# Altium integrated library Linear Technology Power Management Switching Regulator LTC1174-LTC3901.IntLib: 2647 symbols (part 41 of 364)
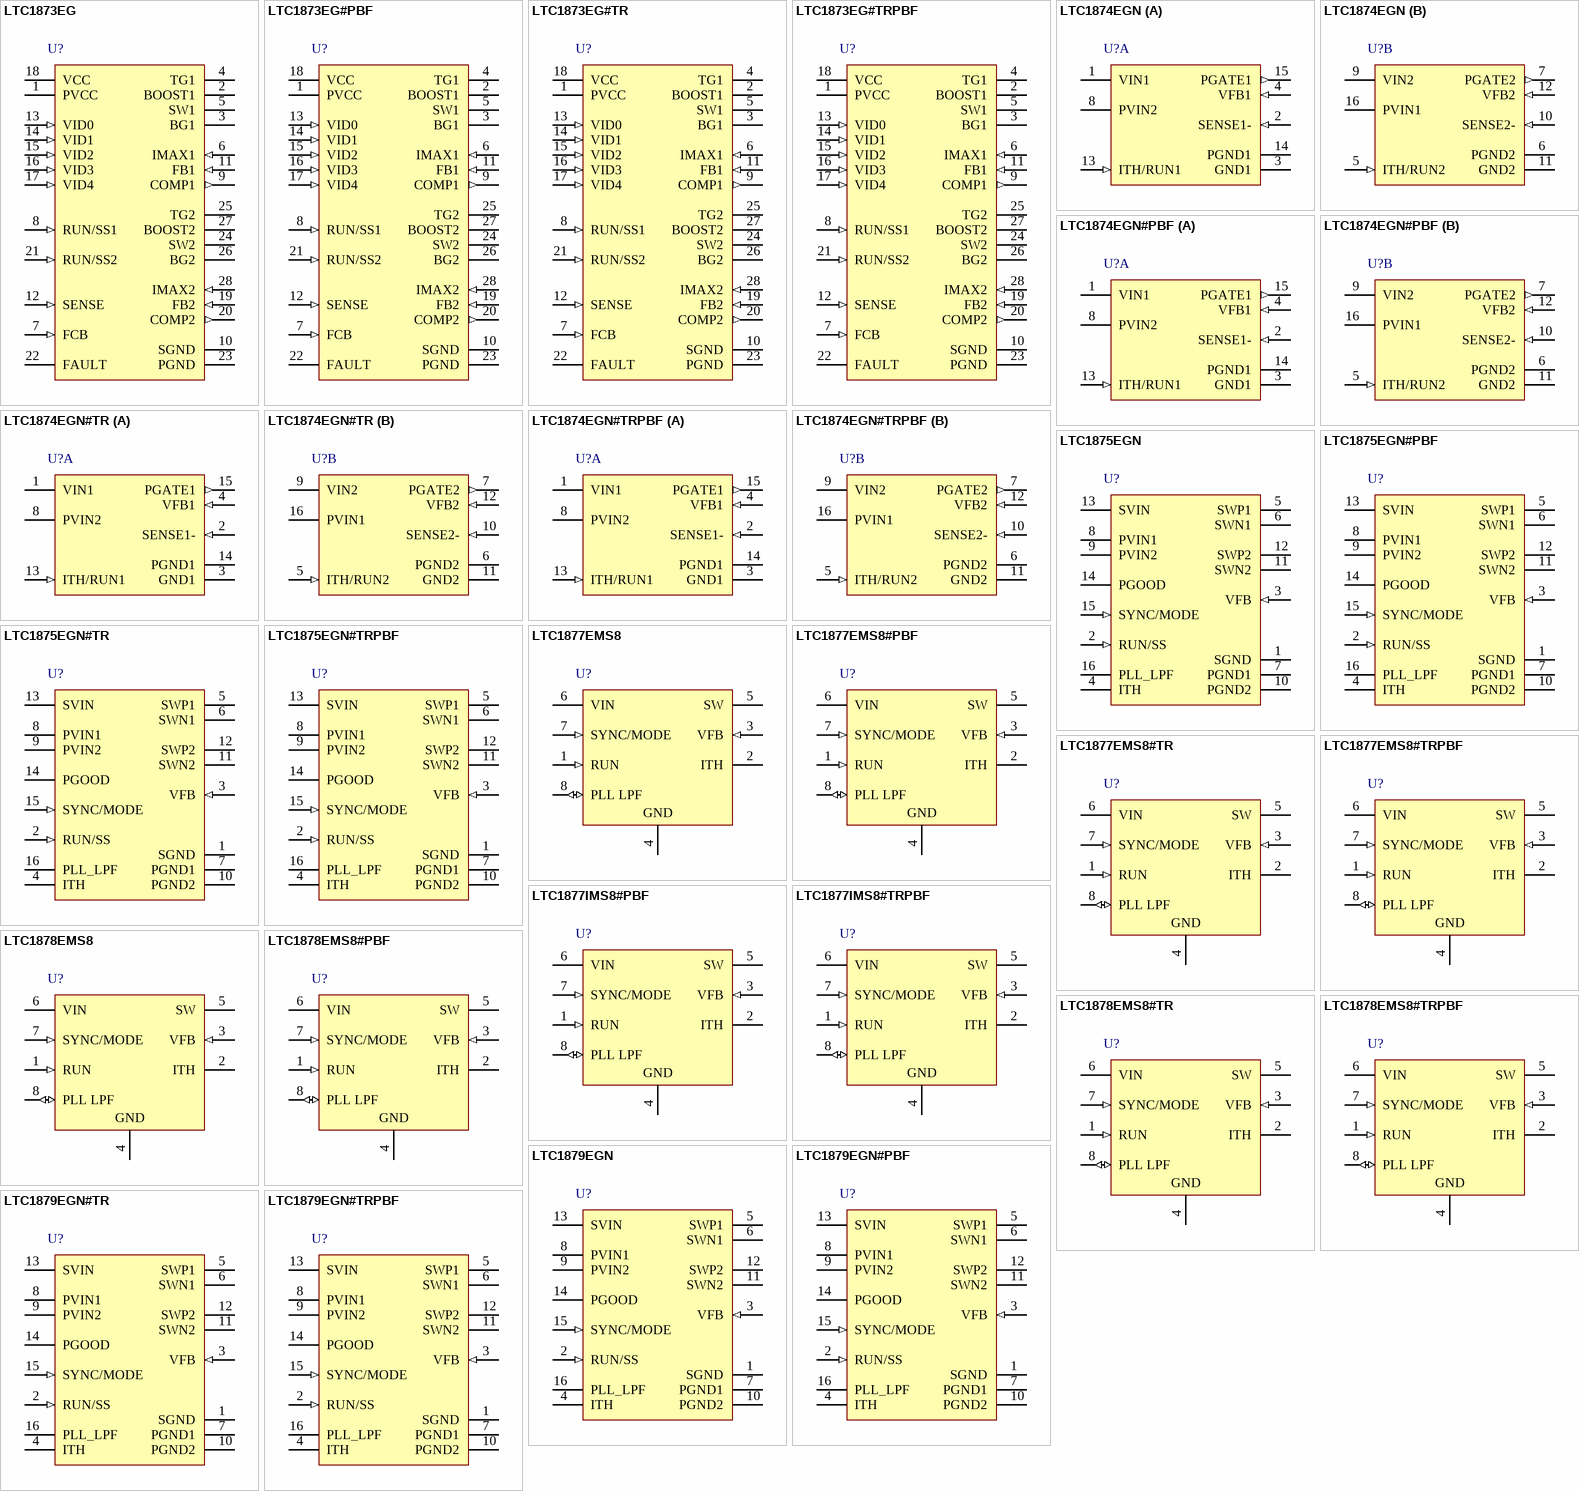
[diagram p236: symbols LTC1873EG to LTC1879EGN#TRPBF]

## LTC1877EMS8
designator U?
High Efficiency Monolithic Synchronous Step-Down Regulator, 8-pin SOP (MS8-8), -40 to 85 degC; Manufacturer: Linear Technology; PartNumber: LTC1877EMS8; Frequency Sync Range: 400kHz - 700kHz; Number of Outputs: 1; DatasheetVersion: Rev. B; PackageVersion: Rev. G, 05/2013; PackageReference: MS8; PackageDescription: 8-Pin Plastic MSOP, Body 3 x 3 mm, Pitch 0.65 mm; Supplier 1: Digi-Key; Supplier Part Number 1: LTC1877EMS8-ND; Supplier 2: Newark; Supplier Part Number 2: 56M4295; RoHS: FALSE; Mounting Technology: Surface Mount; ComponentLink1Description: Manufacturer URL; ComponentLink1URL: http://www.linear.com/; ComponentLink2Description: Datasheet; ComponentLink2URL: http://cds.linear.com/docs/en/datasheet/1877fb.pdf; ComponentLink3Description: Package Specification; ComponentLink3URL: http://cds.linear.com/docs/en/packaging/05081660_G_MS8.pdf
footprint LT-MS8_N (SOP, 8-Leads, Body 3.1x3.1mm, Pitch 0.65mm, IPC Medium Density)
footprint LT-MS8_L (SOP, 8-Leads, Body 3.1x3.1mm, Pitch 0.65mm, IPC High Density)
footprint LT-MS8_M (SOP, 8-Leads, Body 3.1x3.1mm, Pitch 0.65mm, IPC Low Density)
pins: 1 RUN (in), 2 ITH "Error Amplifier Compensation Point. The current comparator threshold increases with this control voltage. Nominal voltage range for this pin is from 0.5V to 1.9V", 3 VFB (in) "Feedback Pin. Receives the feedback voltage from an external resistive divider across the output.", 4 GND (power) "Ground Pin.", 5 SW (power) "Switch Node Connection to Inductor. This pin connects to the drains of the internal main and synchronous power MOSFET switches.", 6 VIN (power) "Main Supply Pin. Must be closely decoupled to GND, Pin 4.", 7 SYNC/MODE (in), 8 PLL LPF (io) "Output of the Phase Detector and Control Input of Oscillator. Connect a series RC lowpass network from this pin to ground if externally synchronized. If unused, this pin may be left open."

## LTC1877EMS8#PBF
designator U?
High Efficiency Monolithic Synchronous Step-Down Regulator, 8-pin SOP (MS8-8), -40 to 85 degC, Pb-Free; Manufacturer: Linear Technology; PartNumber: LTC1877EMS8#PBF; Frequency Sync Range: 400kHz - 700kHz; Number of Outputs: 1; DatasheetVersion: Rev. B; PackageVersion: Rev. G, 05/2013; PackageReference: MS8; PackageDescription: 8-Pin Plastic MSOP, Body 3 x 3 mm, Pitch 0.65 mm; Supplier 1: Digi-Key; Supplier Part Number 1: LTC1877EMS8#PBF-ND; Supplier 2: Farnell; Supplier Part Number 2: 1273536; Supplier 3: Newark; Supplier Part Number 3: 56M4296; RoHS: TRUE; Mounting Technology: Surface Mount; ComponentLink1Description: Manufacturer URL; ComponentLink1URL: http://www.linear.com/; ComponentLink2Description: Datasheet; ComponentLink2URL: http://cds.linear.com/docs/en/datasheet/1877fb.pdf; ComponentLink3Description: Package Specification; ComponentLink3URL: http://cds.linear.com/docs/en/packaging/05081660_G_MS8.pdf
footprint LT-MS8_N (SOP, 8-Leads, Body 3.1x3.1mm, Pitch 0.65mm, IPC Medium Density)
footprint LT-MS8_L (SOP, 8-Leads, Body 3.1x3.1mm, Pitch 0.65mm, IPC High Density)
footprint LT-MS8_M (SOP, 8-Leads, Body 3.1x3.1mm, Pitch 0.65mm, IPC Low Density)
pins: 1 RUN (in), 2 ITH "Error Amplifier Compensation Point. The current comparator threshold increases with this control voltage. Nominal voltage range for this pin is from 0.5V to 1.9V", 3 VFB (in) "Feedback Pin. Receives the feedback voltage from an external resistive divider across the output.", 4 GND (power) "Ground Pin.", 5 SW (power) "Switch Node Connection to Inductor. This pin connects to the drains of the internal main and synchronous power MOSFET switches.", 6 VIN (power) "Main Supply Pin. Must be closely decoupled to GND, Pin 4.", 7 SYNC/MODE (in), 8 PLL LPF (io) "Output of the Phase Detector and Control Input of Oscillator. Connect a series RC lowpass network from this pin to ground if externally synchronized. If unused, this pin may be left open."

## LTC1877EMS8#TR
designator U?
High Efficiency Monolithic Synchronous Step-Down Regulator, 8-pin SOP (MS8-8), -40 to 85 degC, Tape and Reel; Manufacturer: Linear Technology; PartNumber: LTC1877EMS8#TR; Frequency Sync Range: 400kHz - 700kHz; Number of Outputs: 1; DatasheetVersion: Rev. B; PackageVersion: Rev. G, 05/2013; PackageReference: MS8; PackageDescription: 8-Pin Plastic MSOP, Body 3 x 3 mm, Pitch 0.65 mm; Supplier 1: Digi-Key; Supplier Part Number 1: LTC1877EMS8#TR-ND; Supplier 2: Newark; Supplier Part Number 2: 56M4297; Packing: Tape and Reel; RoHS: FALSE; Mounting Technology: Surface Mount; ComponentLink1Description: Manufacturer URL; ComponentLink1URL: http://www.linear.com/; ComponentLink2Description: Datasheet; ComponentLink2URL: http://cds.linear.com/docs/en/datasheet/1877fb.pdf; ComponentLink3Description: Package Specification; ComponentLink3URL: http://cds.linear.com/docs/en/packaging/05081660_G_MS8.pdf
footprint LT-MS8_N (SOP, 8-Leads, Body 3.1x3.1mm, Pitch 0.65mm, IPC Medium Density)
footprint LT-MS8_L (SOP, 8-Leads, Body 3.1x3.1mm, Pitch 0.65mm, IPC High Density)
footprint LT-MS8_M (SOP, 8-Leads, Body 3.1x3.1mm, Pitch 0.65mm, IPC Low Density)
pins: 1 RUN (in), 2 ITH "Error Amplifier Compensation Point. The current comparator threshold increases with this control voltage. Nominal voltage range for this pin is from 0.5V to 1.9V", 3 VFB (in) "Feedback Pin. Receives the feedback voltage from an external resistive divider across the output.", 4 GND (power) "Ground Pin.", 5 SW (power) "Switch Node Connection to Inductor. This pin connects to the drains of the internal main and synchronous power MOSFET switches.", 6 VIN (power) "Main Supply Pin. Must be closely decoupled to GND, Pin 4.", 7 SYNC/MODE (in), 8 PLL LPF (io) "Output of the Phase Detector and Control Input of Oscillator. Connect a series RC lowpass network from this pin to ground if externally synchronized. If unused, this pin may be left open."

## LTC1877EMS8#TRPBF
designator U?
High Efficiency Monolithic Synchronous Step-Down Regulator, 8-pin SOP (MS8-8), -40 to 85 degC, Pb-Free, Tape and Reel; Manufacturer: Linear Technology; PartNumber: LTC1877EMS8#TRPBF; Frequency Sync Range: 400kHz - 700kHz; Number of Outputs: 1; DatasheetVersion: Rev. B; PackageVersion: Rev. G, 05/2013; PackageReference: MS8; PackageDescription: 8-Pin Plastic MSOP, Body 3 x 3 mm, Pitch 0.65 mm; Supplier 1: Digi-Key; Supplier Part Number 1: LTC1877EMS8#TRPBFTR-ND; Supplier 2: Digi-Key; Supplier Part Number 2: LTC1877EMS8#TRPBFCT-ND; Supplier 3: Digi-Key; Supplier Part Number 3: LTC1877EMS8#TRPBFDKR-ND; Supplier 4: Newark; Supplier Part Number 4: 56M4298; Packing: Tape and Reel; RoHS: TRUE; Mounting Technology: Surface Mount; ComponentLink1Description: Manufacturer URL; ComponentLink1URL: http://www.linear.com/; ComponentLink2Description: Datasheet; ComponentLink2URL: http://cds.linear.com/docs/en/datasheet/1877fb.pdf; ComponentLink3Description: Package Specification; ComponentLink3URL: http://cds.linear.com/docs/en/packaging/05081660_G_MS8.pdf
footprint LT-MS8_N (SOP, 8-Leads, Body 3.1x3.1mm, Pitch 0.65mm, IPC Medium Density)
footprint LT-MS8_L (SOP, 8-Leads, Body 3.1x3.1mm, Pitch 0.65mm, IPC High Density)
footprint LT-MS8_M (SOP, 8-Leads, Body 3.1x3.1mm, Pitch 0.65mm, IPC Low Density)
pins: 1 RUN (in), 2 ITH "Error Amplifier Compensation Point. The current comparator threshold increases with this control voltage. Nominal voltage range for this pin is from 0.5V to 1.9V", 3 VFB (in) "Feedback Pin. Receives the feedback voltage from an external resistive divider across the output.", 4 GND (power) "Ground Pin.", 5 SW (power) "Switch Node Connection to Inductor. This pin connects to the drains of the internal main and synchronous power MOSFET switches.", 6 VIN (power) "Main Supply Pin. Must be closely decoupled to GND, Pin 4.", 7 SYNC/MODE (in), 8 PLL LPF (io) "Output of the Phase Detector and Control Input of Oscillator. Connect a series RC lowpass network from this pin to ground if externally synchronized. If unused, this pin may be left open."

## LTC1877IMS8#PBF
designator U?
High Efficiency Monolithic Synchronous Step-Down Regulator, 8-pin SOP (MS8-8), -40 to 85 degC, Pb-Free; Manufacturer: Linear Technology; PartNumber: LTC1877IMS8#PBF; Frequency Sync Range: 400kHz - 700kHz; Number of Outputs: 1; DatasheetVersion: Rev. B; PackageVersion: Rev. G, 05/2013; PackageReference: MS8; PackageDescription: 8-Pin Plastic MSOP, Body 3 x 3 mm, Pitch 0.65 mm; Supplier 1: Digi-Key; Supplier Part Number 1: LTC1877IMS8#PBF-ND; Supplier 2: Newark; Supplier Part Number 2: 13T8308; RoHS: TRUE; Mounting Technology: Surface Mount; ComponentLink1Description: Manufacturer URL; ComponentLink1URL: http://www.linear.com/; ComponentLink2Description: Datasheet; ComponentLink2URL: http://cds.linear.com/docs/en/datasheet/1877fb.pdf; ComponentLink3Description: Package Specification; ComponentLink3URL: http://cds.linear.com/docs/en/packaging/05081660_G_MS8.pdf
footprint LT-MS8_N (SOP, 8-Leads, Body 3.1x3.1mm, Pitch 0.65mm, IPC Medium Density)
footprint LT-MS8_L (SOP, 8-Leads, Body 3.1x3.1mm, Pitch 0.65mm, IPC High Density)
footprint LT-MS8_M (SOP, 8-Leads, Body 3.1x3.1mm, Pitch 0.65mm, IPC Low Density)
pins: 1 RUN (in), 2 ITH "Error Amplifier Compensation Point. The current comparator threshold increases with this control voltage. Nominal voltage range for this pin is from 0.5V to 1.9V", 3 VFB (in) "Feedback Pin. Receives the feedback voltage from an external resistive divider across the output.", 4 GND (power) "Ground Pin.", 5 SW (power) "Switch Node Connection to Inductor. This pin connects to the drains of the internal main and synchronous power MOSFET switches.", 6 VIN (power) "Main Supply Pin. Must be closely decoupled to GND, Pin 4.", 7 SYNC/MODE (in), 8 PLL LPF (io) "Output of the Phase Detector and Control Input of Oscillator. Connect a series RC lowpass network from this pin to ground if externally synchronized. If unused, this pin may be left open."

## LTC1877IMS8#TRPBF
designator U?
High Efficiency Monolithic Synchronous Step-Down Regulator, 8-pin SOP (MS8-8), -40 to 85 degC, Pb-Free, Tape and Reel; Manufacturer: Linear Technology; PartNumber: LTC1877IMS8#TRPBF; Frequency Sync Range: 400kHz - 700kHz; Number of Outputs: 1; DatasheetVersion: Rev. B; PackageVersion: Rev. G, 05/2013; PackageReference: MS8; PackageDescription: 8-Pin Plastic MSOP, Body 3 x 3 mm, Pitch 0.65 mm; Supplier 1: Digi-Key; Supplier Part Number 1: LTC1877IMS8#TRPBF-ND; Packing: Tape and Reel; RoHS: TRUE; Mounting Technology: Surface Mount; ComponentLink1Description: Manufacturer URL; ComponentLink1URL: http://www.linear.com/; ComponentLink2Description: Datasheet; ComponentLink2URL: http://cds.linear.com/docs/en/datasheet/1877fb.pdf; ComponentLink3Description: Package Specification; ComponentLink3URL: http://cds.linear.com/docs/en/packaging/05081660_G_MS8.pdf
footprint LT-MS8_N (SOP, 8-Leads, Body 3.1x3.1mm, Pitch 0.65mm, IPC Medium Density)
footprint LT-MS8_L (SOP, 8-Leads, Body 3.1x3.1mm, Pitch 0.65mm, IPC High Density)
footprint LT-MS8_M (SOP, 8-Leads, Body 3.1x3.1mm, Pitch 0.65mm, IPC Low Density)
pins: 1 RUN (in), 2 ITH "Error Amplifier Compensation Point. The current comparator threshold increases with this control voltage. Nominal voltage range for this pin is from 0.5V to 1.9V", 3 VFB (in) "Feedback Pin. Receives the feedback voltage from an external resistive divider across the output.", 4 GND (power) "Ground Pin.", 5 SW (power) "Switch Node Connection to Inductor. This pin connects to the drains of the internal main and synchronous power MOSFET switches.", 6 VIN (power) "Main Supply Pin. Must be closely decoupled to GND, Pin 4.", 7 SYNC/MODE (in), 8 PLL LPF (io) "Output of the Phase Detector and Control Input of Oscillator. Connect a series RC lowpass network from this pin to ground if externally synchronized. If unused, this pin may be left open."